# Altium schematic symbol library 0805 47uF 6.3V.Schlib: 1 symbol
Pins are listed as number, name and electrical type; pins without a type are passive.

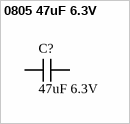
[diagram p0: symbol 0805 47uF 6.3V]

## 0805 47uF 6.3V
designator C?, comment value 47uF 6.3V  (hidden comment: Capacitor)
47uF ±20% 6.3V X5R 0805 Multilayer Ceramic Capacitors MLCC - SMD/SMT RoHS; LCSC Part #: C16780; JLCPCB Part Type: Extended; ComponentLink1Description: LCSC - Samsung Electro-Mechanics CL21A476MQYNNNE; ComponentLink1URL: https://lcsc.com/product-detail/Multilayer-Ceramic-Capacitors-MLCC-SMD-SMT_SAMSUNG_CL21A476MQYNNNE_47uF-476-20-6-3V_C16780.html/?href=jlc-SMT
footprint CAP 0805_2012 (Chip Capacitor, 2-Leads, Body 2.00x1.20mm, IPC Medium Density)
pins: 1, 2